# EAGLE library part A3906SESTR-T (library motor_drivers)
A3906SESTR-T, DC Motor Driver, 2.5 to 9V, 20-Pin QFN EP Source: Datasheet <http://docs-emea.rs-online.com/webdocs/0d88/0900766b80d881cf.pdf>
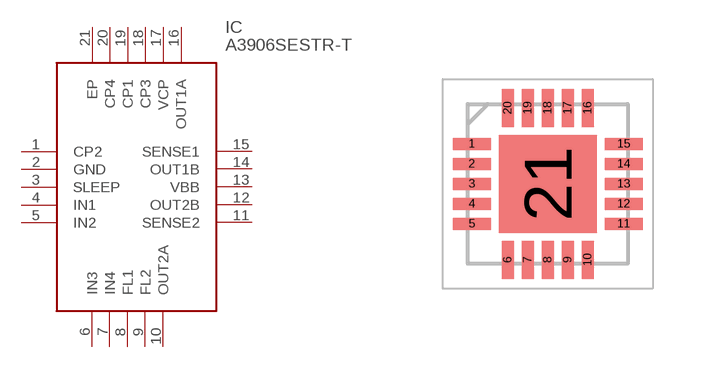
[diagram p3: symbol with the pads of QFN50P400X400X80-21N; footprint QFN50P400X400X80-21N]

Designator prefix IC

## A3906SESTR-T (ALLIED_NUMBER: R1076694; ALLIED_PRICE-STOCK: http://www.alliedelec.com/allegro-microsystems-a3906sestr-t/R1076694/; DESCRIPTION: A3906SESTR-T, DC Motor Driver, 2.5 to 9V, 20-Pin QFN EP; HEIGHT: 0.8mm; MANUFACTURER_NAME: Allegro Microsystems; MANUFACTURER_PART_NUMBER: A3906SESTR-T; MOUSER_PART_NUMBER: 1775538; MOUSER_PRICE-STOCK: http://uk.rs-online.com/web/p/products/1775538; RS_PART_NUMBER: 1775538; RS_PRICE-STOCK: http://uk.rs-online.com/web/p/products/1775538)  [QFN50P400X400X80-21N]
1  CP2
2  GND  pwr
3  SLEEP
4  IN1  in
5  IN2  in
6  IN3  in
7  IN4  in
8  FL1
9  FL2
10  OUT2A  out
11  SENSE2
12  OUT2B  out
13  VBB
14  OUT1B  out
15  SENSE1
16  OUT1A  out
17  VCP
18  CP3
19  CP1
20  CP4
21  EP

## Footprint QFN50P400X400X80-21N (pad centres in mm)
20 QFN-EP
smd 0.95 x 0.3: 1 -1.9,1; 2 -1.9,0.5; 3 -1.9,0; 4 -1.9,-0.5; 5 -1.9,-1; 11 1.9,-1; 12 1.9,-0.5; 13 1.9,0; 14 1.9,0.5; 15 1.9,1
smd 0.3 x 0.95: 6 -1,-1.9; 7 -0.5,-1.9; 8 0,-1.9; 9 0.5,-1.9; 10 1,-1.9; 16 1,1.9; 17 0.5,1.9; 18 0,1.9; 19 -0.5,1.9; 20 -1,1.9
smd 2.45 x 2.45: 21 0,0